# EAGLE library part USB-MICRO (library USB)
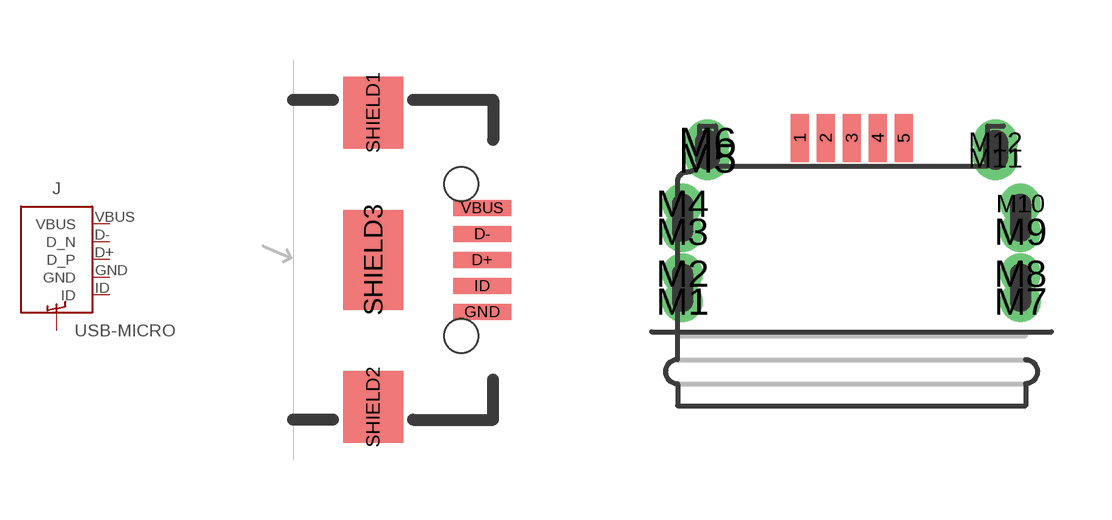
[diagram p3: symbol with the pads of USB-B-MICRO-SMD_V03; footprints USB-B-MICRO-SMD_V03, MOLEX-2049261103]

Designator prefix J

## USB-MICRO  [USB-B-MICRO-SMD_V03]
D+  D_P
D-  D_N
GND  GND  pwr
ID  ID
SHIELD1  SHIELD
SHIELD2  SHIELD
SHIELD3  SHIELD
VBUS  VBUS  pwr

## USB-MICRO-MOLEX-2049261103 (MF: MOLEX; MPN: 2049261103)  [MOLEX-2049261103]
1  VBUS  pwr
2  D_N
3  D_P
4  ID
5  GND  pwr
M1  SHIELD
M2  SHIELD
M3  SHIELD
M4  SHIELD
M5  SHIELD
M6  SHIELD
M7  SHIELD
M8  SHIELD
M9  SHIELD
M10  SHIELD
M11  SHIELD
M12  SHIELD

## Footprint USB-B-MICRO-SMD_V03 (pad centres in mm)
smd 1.45 x 0.4: D+ 2.725,0; D- 2.725,0.65; GND 2.725,-1.3; ID 2.725,-0.65; VBUS 2.725,1.3
smd 1.5 x 1.8: SHIELD1 0,3.685; SHIELD2 0,-3.685
smd 1.5 x 2.5: SHIELD3 0,0
hole 0.85 at 2.2,1.9
hole 0.85 at 2.2,-1.9

## Footprint MOLEX-2049261103 (pad centres in mm)
smd 0.45 x 1.2: 1 -1.3,2.85; 2 -0.65,2.85; 3 0,2.85; 4 0.65,2.85; 5 1.3,2.85
drill 0.5: M1 -4.225,-1.25; M2 -4.225,-0.55; M3 -4.225,0.5; M4 -4.225,1.2; M7 4.225,-1.25; M8 4.225,-0.55; M9 4.225,0.5; M10 4.225,1.2
drill 0.6: M5 -3.6,2.35; M6 -3.6,2.75; M11 3.6,2.35; M12 3.6,2.75